# EAGLE library part SSM-104-L-DV (library edrtech_lib)
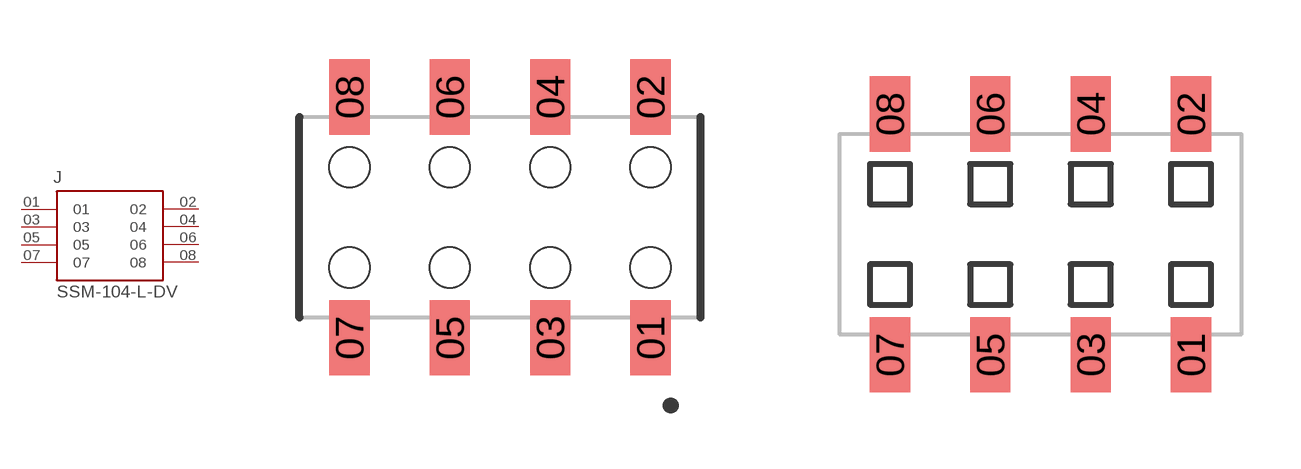
[diagram p37: symbol with the pads of SAMTEC_SSM-104-L-DV-BE; footprints SAMTEC_SSM-104-L-DV-BE, SAMTEC_SSM-104-L-DV]

Designator prefix J

## SSM-104-L-DV (MANUFACTURER: SAMTEC)  [SAMTEC_SSM-104-L-DV-BE]
01  01  pas
02  02  pas
03  03  pas
04  04  pas
05  05  pas
06  06  pas
07  07  pas
08  08  pas

## SSM-104-L-DVBE  [SAMTEC_SSM-104-L-DV]
Pads as for SAMTEC_SSM-104-L-DV-BE

## Footprint SAMTEC_SSM-104-L-DV-BE (pad centres in mm)
smd 1.02 x 1.905: 01 3.81,-3.047; 02 3.81,3.047; 03 1.27,-3.047; 04 1.27,3.047; 05 -1.27,-3.047; 06 -1.27,3.047; 07 -3.81,-3.047; 08 -3.81,3.047
hole 1.02 at 3.81,1.27
hole 1.02 at 3.81,-1.27
hole 1.02 at 1.27,1.27
hole 1.02 at 1.27,-1.27
hole 1.02 at -1.27,1.27
hole 1.02 at -1.27,-1.27
hole 1.02 at -3.81,1.27
hole 1.02 at -3.81,-1.27

## Footprint SAMTEC_SSM-104-L-DV (pad centres in mm)
smd 1.02 x 1.905: 01 3.81,-3.047; 02 3.81,3.047; 03 1.27,-3.047; 04 1.27,3.047; 05 -1.27,-3.047; 06 -1.27,3.047; 07 -3.81,-3.047; 08 -3.81,3.047